# Altium footprint library con-neutrik_ag.PCBLIB: 78 footprints (part 5 of 5)
Each footprint in its own frame and in the unit in brackets; x right, y up, seen from the top. Pads: shape width x height; smd on the part's side, far side on the other; paste and mask are expansions set on the pad; w line width, h text height; cw(c..) or ccw(c..) is an arc to the next point about the centre after c.
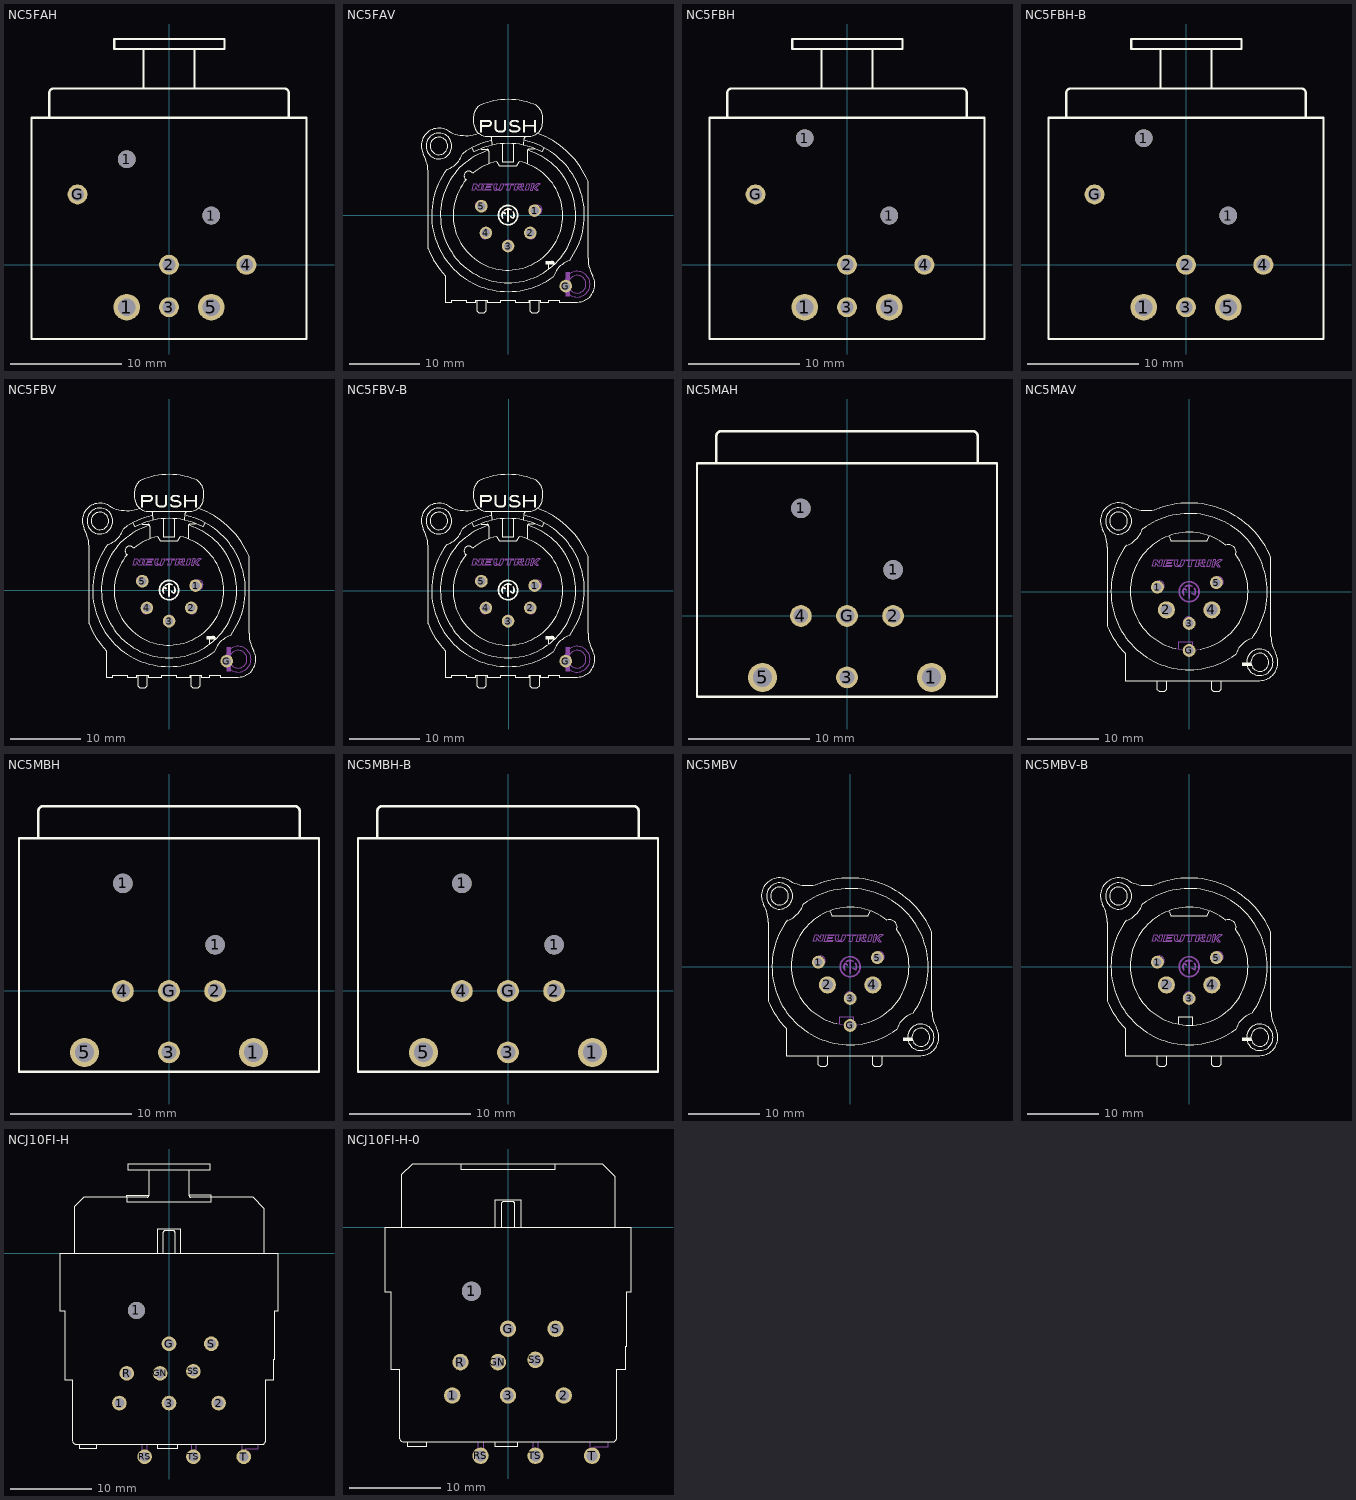
[diagram p4: the footprints below, top view; thin cyan lines are the x and y axes]

## NC5FAH [mil]
pads (8):
  round 94.48 hole 62.99: 1(-150,-150.2) 5(150,-150.2)
  round 62.99 hole 62.99: 1(-150,375) 1(150,175)
  round 70.86 hole 47.24: 2(0,0) 3(0,-150.2) 4(274.8,0) G(-324.8,250.2)
Top Overlay:
  lines w8: -425.2,526.06 -425.2,610.7 cw(c-409.45,610.7) -409.45,626.45 409.45,626.45 cw(c409.45,610.7) 425.2,610.7 425.2,526.06 ; -90.55,630.84 -90.55,766.67 ; 88.58,766.67 -90.55,766.67 ; 90.55,630.84 90.55,766.67 196.85,766.67 196.85,802.1 -194.88,802.1 -194.88,766.67 -90.55,766.67 ; -488.19,-263.31 -488.19,522.12 488.19,522.12 488.19,-263.31 -488.19,-263.31

## NC5FAV [mil]
pads (6):
  round 70.86 hole 47.24: 1(150,25) 2(125,-100) 3(0,-175) 4(-125,-100) 5(-150,50) G(325,-400)
Top Overlay:
  circle w4: c-389.4,389.33 r72.76
  circle w4: c-389.4,389.64 r49.03
  circle w9.84: c0,0 r54.33
  rectangle: 210.63,-277.56 259.84,-257.87
  rectangle: -157.48,465.35 -146.46,536.22
  rectangle: -75.98,489.76 -65.35,536.22
  rectangle: -22.05,489.76 -11.42,536.22
  rectangle: 84.25,465.75 94.88,536.22
  rectangle: 145.67,465.35 156.3,536.22
  rectangle: 93.31,498.82 147.24,507.48
  lines w4: -202.76,375.98 -190.94,356.3 cw(c0,-4.91) 190.94,356.3 200.79,375.98 ; -177.17,-480.32 -177.17,-537.4 -165.35,-549.21 -133.86,-549.21 -122.05,-537.4 -122.05,-480.32 ; -167.32,460.63 cw(c-237.48,645.5) -336.61,474.41 ccw(c-389,389.21) -476.38,340.55 cw(c-647.99,243.36) -450.79,246.06 -450.79,-190.94 ccw(c30.16,18.3) -352.36,-340.55 -352.36,-490.16 -316.93,-490.16 -316.93,-478.35 -234.25,-478.35 -234.25,-490.16 -181.1,-490.16 -181.1,-478.35 -118.11,-478.35 -118.11,-490.16 -41.34,-490.16 -41.34,-478.35 41.34,-478.35 41.34,-490.16 118.11,-490.16 118.11,-478.35 181.1,-478.35 181.1,-490.16 230.32,-490.16 230.32,-478.35 289.37,-478.35 289.37,-490.16 389.76,-490.16 ccw(c388.74,-389.69) 476.38,-340.55 cw(c647.74,-243.47) 450.79,-244.09 450.79,190.94 ccw(c-1.1,-2.35) 169.29,458.66 ; -149.61,370.08 -118.11,370.08 cw(c-118.11,360.24) -108.27,360.24 -108.27,289.37 ; -112.2,364.17 ccw(c0,0.01) 112.2,364.17 ; -96.46,419.29 ccw(c-3.54,4.9) -255.91,346.46 cw(c-390.03,390.03) -346.46,255.91 ccw(c-0.16,-0.16) 255.91,-346.46 cw(c390.39,-390.39) 346.46,-255.91 ccw(c-0.36,-0.44) 96.46,419.29 ; -96.46,440.94 cw(c-103.34,432.08) -92.52,435.04 -88.58,393.7 ; -33.46,401.57 -33.46,301.18 -29.53,299.21 29.53,299.21 33.46,301.18 33.46,401.57 ; 88.58,393.7 92.52,433.07 cw(c102.36,433.06) 96.46,440.94 ; 108.27,289.37 108.27,360.24 cw(c118.11,360.24) 118.11,370.08 147.64,370.08 ; 122.05,-480.32 122.05,-537.4 133.86,-549.21 165.35,-549.21 177.17,-537.4 177.17,-480.32 ; 230.32,-303.15 230.32,-275.59 ; 244.09,-261.81 250,-255.91 263.78,-271.65 ; -236.22,198.82 ccw(c-0.79,-0.89) 62.99,301.18 49.21,277.56 -49.21,277.56 -62.99,301.18 ccw(c-4.2,3.77) -198.82,236.22 ccw(c-221.2,221.2) -236.22,198.82 ; -194.88,519.69 -194.88,553.15 cw(c-113.04,550.06) -155.51,620.08 cw(c-0.79,255.72) 0,651.57 cw(c1.88,262.61) 145.67,624.02 cw(c115.13,548.22) 163.39,614.17 cw(c112.41,548.06) 194.88,561.02 194.88,519.69 cw(c114.49,523.3) 118.11,442.91 -120.08,442.91 cw(c-114.29,523.38) -194.88,519.69
  lines w9.84: -29.92,-17.32 cw(c2.27,0) -29.92,17.32 -15.75,9.06 ; -19.69,27.95 cw(c-0.07,1.32) 16.54,29.92 ; 0,-34.25 0,30.71 ; 14.57,-8.27 29.53,-16.93 ccw(c0.2,0.2) 29.53,17.32
  lines w10.63: -151.18,530.71 -110.63,530.71 cw(c-110.48,515.89) -95.67,516.54 cw(c-111,517.31) -110.63,501.97 -148.43,501.97 ; -70.87,493.31 -70.87,490.94 ccw(c-50.85,490.87) -51.57,470.87 -34.65,470.87 ccw(c-34.42,488.36) -16.93,488.19 -16.93,490.16 ; 10.63,479.92 ccw(c26.8,488.29) 14.57,474.8 ccw(c26.09,491.37) 24.41,471.26 43.31,470.87 ccw(c42.93,497.56) 55.51,474.02 ccw(c46.64,491.62) 63.78,481.89 64.57,488.19 ccw(c52.51,484.99) 58.27,496.06 ccw(c42.18,475.44) 43.31,501.57 33.46,501.57 cw(c35.29,530.43) 22.05,504.72 cw(c26.59,517.33) 13.78,513.39 cw(c19.88,515.75) 13.78,518.11 cw(c24.59,517.56) 18.9,526.77 cw(c34.13,505.34) 31.5,531.5 41.34,531.5 cw(c42,511.09) 51.57,529.13 cw(c43.87,511.05) 57.09,525.59
Mechanical 16:
  circle w4: c-159.67,51.91 r25.48
  circle w4: c166.15,29.93 r25.27
  circle w4: c129.77,-107.77 r25.52
  circle w4: c0,-167.91 r25.48
  circle w4: c-129.78,-107.73 r25.47
  circle w4: c389.32,-389.34 r72.33
  circle w4: c389.32,-389.34 r49.62
  rectangle: -183.67,42.04 -135.68,61.78
  rectangle: 142.15,20.06 190.04,39.7
  rectangle: 104.74,-117.69 153.43,-97.96
  rectangle: -24.02,-177.78 24.65,-158.13
  rectangle: -153.98,-117.59 -106.17,-97.87
  rectangle: 324.56,-458.27 348.04,-320.41
  lines w2.5: 57.09,172.24 54.13,160.43 67.91,160.43 ccw(c68.07,168.14) 74.8,164.37 75.79,167.32 ccw(c72.34,168.79) 73.82,172.24 58.07,172.24 ; -202.76,138.98 -192.91,175.98 -178.74,175.98 -164.57,155.51 -159.06,175.98 -145.28,175.98 -155.12,138.98 -169.29,138.98 -183.07,159.06 -188.98,138.98 -202.76,138.98 ; -142.72,138.78 -132.87,176.18 -88.58,176.18 -90.55,169.29 -121.06,169.29 -123.03,161.42 -99.41,161.42 -101.38,154.53 -125,154.53 -127.95,145.67 -96.46,145.67 -98.43,138.78 -142.72,138.78 ; -81.69,155.51 ccw(c-66.83,153.75) -66.93,138.78 -48.23,138.78 ccw(c-50.39,158.44) -31.5,152.56 -24.61,176.18 -39.37,176.18 -46.26,151.57 cw(c-53.27,154.1) -53.15,146.65 -62.01,146.65 cw(c-61.38,153.27) -67.91,154.53 -62.01,176.18 -75.79,176.18 -81.69,155.51 ; -14.76,169.29 1.97,169.29 -5.91,138.78 7.87,138.78 15.75,169.29 30.51,169.29 32.48,176.18 -12.8,176.18 -14.76,169.29 ; 34.45,138.78 44.29,176.18 81.69,176.18 cw(c82.72,169.41) 89.57,169.29 cw(c80.22,169.13) 83.66,160.43 72.83,155.51 86.61,138.78 68.9,138.78 53.15,156.5 48.23,138.78 34.45,138.78 ; 97.44,138.78 111.22,138.78 121.06,176.18 107.28,176.18 97.44,138.78 ; 124.02,138.78 133.86,176.18 147.64,176.18 143.7,160.43 164.37,176.18 181.1,176.18 155.51,156.5 171.26,138.78 158.46,138.78 142.72,156.5 137.8,138.78 124.02,138.78

## NC5FBH [mil]
pads (8):
  round 94.48 hole 62.99: 1(-150,-150.2) 5(150,-150.2)
  round 62.99 hole 62.99: 1(-150,450) 1(150,175)
  round 70.86 hole 47.24: 2(0,0) 3(0,-150.2) 4(274.8,0) G(-324.8,250.2)
Top Overlay:
  lines w8: -425.2,526.06 -425.2,610.7 cw(c-409.45,610.7) -409.45,626.45 409.45,626.45 cw(c409.45,610.7) 425.2,610.7 425.2,526.06 ; -90.55,630.84 -90.55,766.67 ; 88.58,766.67 -90.55,766.67 ; 90.55,630.84 90.55,766.67 196.85,766.67 196.85,802.1 -194.88,802.1 -194.88,766.67 -90.55,766.67 ; -488.19,-263.31 -488.19,522.12 488.19,522.12 488.19,-263.31 -488.19,-263.31

## NC5FBH-B [mil]
pads (8):
  round 94.48 hole 62.99: 1(-150,-150.2) 5(150,-150.2)
  round 62.99 hole 62.99: 1(-150,450) 1(150,175)
  round 70.86 hole 47.24: 2(0,0) 3(0,-150.2) 4(274.8,0) G(-324.8,250.2)
Top Overlay:
  lines w8: -425.2,526.06 -425.2,610.7 cw(c-409.45,610.7) -409.45,626.45 409.45,626.45 cw(c409.45,610.7) 425.2,610.7 425.2,526.06 ; -90.55,630.84 -90.55,766.67 ; 88.58,766.67 -90.55,766.67 ; 90.55,630.84 90.55,766.67 196.85,766.67 196.85,802.1 -194.88,802.1 -194.88,766.67 -90.55,766.67 ; -488.19,-263.31 -488.19,522.12 488.19,522.12 488.19,-263.31 -488.19,-263.31

## NC5FBV [mil]
pads (6):
  round 70.86 hole 47.24: 1(150,25) 2(125,-100) 3(0,-175) 4(-125,-100) 5(-150,50) G(325,-400)
Top Overlay:
  circle w4: c-389.4,389.33 r72.76
  circle w4: c-389.4,389.64 r49.03
  circle w9.84: c0,0 r54.33
  rectangle: 210.63,-277.56 259.84,-257.87
  rectangle: -157.48,465.35 -146.46,536.22
  rectangle: -75.98,489.76 -65.35,536.22
  rectangle: -22.05,489.76 -11.42,536.22
  rectangle: 84.25,465.75 94.88,536.22
  rectangle: 145.67,465.35 156.3,536.22
  rectangle: 93.31,498.82 147.24,507.48
  lines w4: -202.76,375.98 -190.94,356.3 cw(c0,-4.91) 190.94,356.3 200.79,375.98 ; -177.17,-480.32 -177.17,-537.4 -165.35,-549.21 -133.86,-549.21 -122.05,-537.4 -122.05,-480.32 ; -167.32,460.63 cw(c-237.48,645.51) -336.61,474.41 ccw(c-389,389.21) -476.38,340.55 cw(c-648,243.36) -450.79,246.06 -450.79,-190.94 ccw(c-21.97,-16) -352.36,-340.55 -352.36,-490.16 -316.93,-490.16 -316.93,-478.35 -234.25,-478.35 -234.25,-490.16 -181.1,-490.16 -181.1,-478.35 -118.11,-478.35 -118.11,-490.16 -41.34,-490.16 -41.34,-478.35 41.34,-478.35 41.34,-490.16 118.11,-490.16 118.11,-478.35 181.1,-478.35 181.1,-490.16 230.32,-490.16 230.32,-478.35 289.37,-478.35 289.37,-490.16 389.76,-490.16 ccw(c388.74,-389.69) 476.38,-340.55 cw(c647.74,-243.47) 450.79,-244.09 450.79,190.94 ccw(c-1.09,-2.35) 169.29,458.66 ; -149.61,370.08 -118.11,370.08 cw(c-118.11,360.24) -108.27,360.24 -108.27,289.37 ; -112.2,364.17 ccw(c0,0.01) 112.2,364.17 ; -96.46,419.29 ccw(c-3.54,4.9) -255.91,346.46 cw(c-390.03,390.03) -346.46,255.91 ccw(c-0.16,-0.16) 255.91,-346.46 cw(c390.39,-390.39) 346.46,-255.91 ccw(c-0.36,-0.44) 96.46,419.29 ; -96.46,440.94 cw(c-103.34,432.08) -92.52,435.04 -88.58,393.7 ; -33.46,401.57 -33.46,301.18 -29.53,299.21 29.53,299.21 33.46,301.18 33.46,401.57 ; 88.58,393.7 92.52,433.07 cw(c102.36,433.06) 96.46,440.94 ; 108.27,289.37 108.27,360.24 cw(c118.11,360.24) 118.11,370.08 147.64,370.08 ; 122.05,-480.32 122.05,-537.4 133.86,-549.21 165.35,-549.21 177.17,-537.4 177.17,-480.32 ; 230.32,-303.15 230.32,-275.59 ; 244.09,-261.81 250,-255.91 263.78,-271.65 ; -236.22,198.82 ccw(c-0.79,-0.88) 62.99,301.18 49.21,277.56 -49.21,277.56 -62.99,301.18 ccw(c-4.2,3.77) -198.82,236.22 ccw(c-221.2,221.2) -236.22,198.82 ; -194.88,519.69 -194.88,553.15 cw(c-113.04,550.06) -155.51,620.08 cw(c-0.79,255.72) 0,651.57 cw(c1.88,262.61) 145.67,624.02 cw(c115.13,548.22) 163.39,614.17 cw(c112.41,548.06) 194.88,561.02 194.88,519.69 cw(c114.49,523.3) 118.11,442.91 -120.08,442.91 cw(c-114.29,523.37) -194.88,519.69
  lines w9.84: -29.92,-17.32 cw(c2.27,0) -29.92,17.32 -15.75,9.06 ; -19.69,27.95 cw(c-0.07,1.33) 16.54,29.92 ; 0,-34.25 0,30.71 ; 14.57,-8.27 29.53,-16.93 ccw(c0.2,0.2) 29.53,17.32
  lines w10.63: -151.18,530.71 -110.63,530.71 cw(c-110.47,515.89) -95.67,516.54 cw(c-110.99,517.31) -110.63,501.97 -148.43,501.97 ; -70.87,493.31 -70.87,490.94 ccw(c-50.86,490.87) -51.57,470.87 -34.65,470.87 ccw(c-34.42,488.36) -16.93,488.19 -16.93,490.16 ; 10.63,479.92 ccw(c26.8,488.29) 14.57,474.8 ccw(c26.09,491.36) 24.41,471.26 43.31,470.87 ccw(c42.93,497.56) 55.51,474.02 ccw(c46.64,491.62) 63.78,481.89 64.57,488.19 ccw(c52.51,484.99) 58.27,496.06 ccw(c42.18,475.45) 43.31,501.57 33.46,501.57 cw(c35.29,530.43) 22.05,504.72 cw(c26.59,517.33) 13.78,513.39 cw(c19.88,515.75) 13.78,518.11 cw(c24.59,517.56) 18.9,526.77 cw(c34.13,505.34) 31.5,531.5 41.34,531.5 cw(c42,511.08) 51.57,529.13 cw(c43.87,511.05) 57.09,525.59
Mechanical 16:
  circle w4: c-159.67,51.91 r25.48
  circle w4: c166.15,29.93 r25.27
  circle w4: c129.77,-107.77 r25.52
  circle w4: c0,-167.91 r25.48
  circle w4: c-129.78,-107.73 r25.47
  circle w4: c389.32,-389.34 r72.33
  circle w4: c389.32,-389.34 r49.62
  rectangle: -183.67,42.04 -135.68,61.78
  rectangle: 142.15,20.06 190.04,39.7
  rectangle: 104.74,-117.69 153.43,-97.96
  rectangle: -24.02,-177.78 24.65,-158.13
  rectangle: -153.98,-117.59 -106.17,-97.87
  rectangle: 324.56,-458.27 348.04,-320.41
  lines w2.5: 57.09,172.24 54.13,160.43 67.91,160.43 ccw(c68.07,168.14) 74.8,164.37 75.79,167.32 ccw(c72.34,168.79) 73.82,172.24 58.07,172.24 ; -202.76,138.98 -192.91,175.98 -178.74,175.98 -164.57,155.51 -159.06,175.98 -145.28,175.98 -155.12,138.98 -169.29,138.98 -183.07,159.06 -188.98,138.98 -202.76,138.98 ; -142.72,138.78 -132.87,176.18 -88.58,176.18 -90.55,169.29 -121.06,169.29 -123.03,161.42 -99.41,161.42 -101.38,154.53 -125,154.53 -127.95,145.67 -96.46,145.67 -98.43,138.78 -142.72,138.78 ; -81.69,155.51 ccw(c-66.83,153.75) -66.93,138.78 -48.23,138.78 ccw(c-50.39,158.44) -31.5,152.56 -24.61,176.18 -39.37,176.18 -46.26,151.57 cw(c-53.27,154.1) -53.15,146.65 -62.01,146.65 cw(c-61.38,153.27) -67.91,154.53 -62.01,176.18 -75.79,176.18 -81.69,155.51 ; -14.76,169.29 1.97,169.29 -5.91,138.78 7.87,138.78 15.75,169.29 30.51,169.29 32.48,176.18 -12.8,176.18 -14.76,169.29 ; 34.45,138.78 44.29,176.18 81.69,176.18 cw(c82.72,169.41) 89.57,169.29 cw(c80.22,169.13) 83.66,160.43 72.83,155.51 86.61,138.78 68.9,138.78 53.15,156.5 48.23,138.78 34.45,138.78 ; 97.44,138.78 111.22,138.78 121.06,176.18 107.28,176.18 97.44,138.78 ; 124.02,138.78 133.86,176.18 147.64,176.18 143.7,160.43 164.37,176.18 181.1,176.18 155.51,156.5 171.26,138.78 158.46,138.78 142.72,156.5 137.8,138.78 124.02,138.78

## NC5FBV-B [mil]
pads (6):
  round 70.86 hole 47.24: 1(146.06,28.94) 2(121.06,-96.06) 3(-3.94,-171.06) 4(-128.94,-96.06) 5(-153.94,53.94) G(321.06,-396.06)
Top Overlay:
  circle w4: c-393.34,393.26 r72.76
  circle w4: c-393.34,393.58 r49.03
  circle w9.84: c-3.94,3.94 r54.33
  rectangle: 206.69,-273.62 255.91,-253.94
  rectangle: -161.42,469.29 -150.39,540.16
  rectangle: -79.92,493.7 -69.29,540.16
  rectangle: -25.98,493.7 -15.35,540.16
  rectangle: 80.32,469.69 90.94,540.16
  rectangle: 141.73,469.29 152.36,540.16
  rectangle: 89.37,502.76 143.31,511.42
  lines w4: -206.69,379.92 -194.88,360.24 cw(c-3.94,-0.98) 187.01,360.24 196.85,379.92 ; -181.1,-476.38 -181.1,-533.46 -169.29,-545.28 -137.8,-545.28 -125.98,-533.46 -125.98,-476.38 ; -171.26,464.57 cw(c-241.42,649.45) -340.55,478.35 ccw(c-392.94,393.15) -480.32,344.49 cw(c-651.94,247.28) -454.72,250 -454.72,-187.01 ccw(c-25.93,-12.09) -356.3,-336.61 -356.3,-486.22 -320.87,-486.22 -320.87,-474.41 -238.19,-474.41 -238.19,-486.22 -185.04,-486.22 -185.04,-474.41 -122.05,-474.41 -122.05,-486.22 -45.28,-486.22 -45.28,-474.41 37.4,-474.41 37.4,-486.22 114.17,-486.22 114.17,-474.41 177.17,-474.41 177.17,-486.22 226.38,-486.22 226.38,-474.41 285.43,-474.41 285.43,-486.22 385.83,-486.22 ccw(c384.81,-385.75) 472.44,-336.61 cw(c643.78,-239.53) 446.85,-240.16 446.85,194.88 ccw(c-5.03,1.6) 165.35,462.6 ; -153.54,374.02 -122.05,374.02 cw(c-122.05,364.17) -112.2,364.17 -112.2,293.31 ; -116.14,368.11 ccw(c-3.94,3.94) 108.27,368.11 ; -100.39,423.23 ccw(c-7.45,8.84) -259.84,350.39 cw(c-393.96,393.96) -350.39,259.84 ccw(c-4.09,3.78) 251.97,-342.52 cw(c386.45,-386.45) 342.52,-251.97 ccw(c-4.3,3.5) 92.52,423.23 ; -100.39,444.88 cw(c-107.28,436.04) -96.46,438.98 -92.52,397.64 ; -37.4,405.51 -37.4,305.12 -33.46,303.15 25.59,303.15 29.53,305.12 29.53,405.51 ; 84.65,397.64 88.58,437.01 cw(c98.42,437) 92.52,444.88 ; 104.33,293.31 104.33,364.17 cw(c114.17,364.18) 114.17,374.02 143.7,374.02 ; 118.11,-476.38 118.11,-533.46 129.92,-545.28 161.42,-545.28 173.23,-533.46 173.23,-476.38 ; 226.38,-299.21 226.38,-271.65 ; 240.16,-257.87 246.06,-251.97 259.84,-267.72 ; -240.16,202.76 ccw(c-4.72,3.05) 59.06,305.12 45.28,281.5 -53.15,281.5 -66.93,305.12 ccw(c-8.14,7.71) -202.76,240.16 ccw(c-225.14,225.14) -240.16,202.76 ; -198.82,523.62 -198.82,557.09 cw(c-116.98,554) -159.45,624.02 cw(c-4.73,259.66) -3.94,655.51 cw(c-2.09,266.55) 141.73,627.95 cw(c111.23,552.15) 159.45,618.11 cw(c108.47,552) 190.94,564.96 190.94,523.62 cw(c110.56,527.23) 114.17,446.85 -124.02,446.85 cw(c-118.24,527.31) -198.82,523.62
  lines w9.84: -33.86,-13.39 cw(c-1.66,3.94) -33.86,21.26 -19.69,12.99 ; -23.62,31.89 cw(c-4.01,5.28) 12.6,33.86 ; -3.94,-30.32 -3.94,34.65 ; 10.63,-4.33 25.59,-12.99 ccw(c-3.74,4.13) 25.59,21.26
  lines w10.63: -155.12,534.65 -114.57,534.65 cw(c-114.42,519.83) -99.61,520.47 cw(c-114.93,521.24) -114.57,505.91 -152.36,505.91 ; -74.8,497.24 -74.8,494.88 ccw(c-54.79,494.8) -55.51,474.8 -38.58,474.8 ccw(c-38.36,492.28) -20.87,492.13 -20.87,494.09 ; 6.69,483.86 ccw(c22.86,492.23) 10.63,478.74 ccw(c22.15,495.3) 20.47,475.2 39.37,474.8 ccw(c38.99,501.49) 51.57,477.95 ccw(c42.69,495.55) 59.84,485.83 60.63,492.13 ccw(c48.57,488.93) 54.33,500 ccw(c38.24,479.39) 39.37,505.51 29.53,505.51 cw(c31.35,534.39) 18.11,508.66 cw(c22.64,521.26) 9.84,517.32 cw(c15.95,519.68) 9.84,522.05 cw(c20.65,521.5) 14.96,530.71 cw(c30.17,509.28) 27.56,535.43 37.4,535.43 cw(c38.08,515) 47.64,533.07 cw(c39.94,515.02) 53.15,529.53
Mechanical 16:
  circle w4: c-163.61,55.84 r25.48
  circle w4: c162.21,33.87 r25.27
  circle w4: c125.83,-103.83 r25.52
  circle w4: c-3.94,-163.97 r25.48
  circle w4: c-133.72,-103.79 r25.47
  circle w4: c385.38,-385.4 r72.33
  circle w4: c385.38,-385.4 r49.62
  rectangle: -187.6,45.97 -139.61,65.72
  rectangle: 138.22,24 186.1,43.64
  rectangle: 100.8,-113.75 149.49,-94.02
  rectangle: -27.96,-173.85 20.71,-154.2
  rectangle: -157.92,-113.65 -110.11,-93.94
  rectangle: 320.62,-454.33 344.1,-316.47
  lines w2.5: 53.15,176.18 50.2,164.37 63.98,164.37 ccw(c64.14,172.08) 70.87,168.31 71.85,171.26 ccw(c68.41,172.74) 69.88,176.18 54.13,176.18 ; -206.69,142.91 -196.85,179.92 -182.68,179.92 -168.5,159.45 -162.99,179.92 -149.21,179.92 -159.06,142.91 -173.23,142.91 -187.01,162.99 -192.91,142.91 -206.69,142.91 ; -146.65,142.72 -136.81,180.12 -92.52,180.12 -94.49,173.23 -125,173.23 -126.97,165.35 -103.35,165.35 -105.32,158.46 -128.94,158.46 -131.89,149.61 -100.39,149.61 -102.36,142.72 -146.65,142.72 ; -85.63,159.45 ccw(c-70.77,157.69) -70.87,142.72 -52.17,142.72 ccw(c-54.32,162.39) -35.43,156.5 -28.54,180.12 -43.31,180.12 -50.2,155.51 cw(c-57.21,158.04) -57.09,150.59 -65.94,150.59 cw(c-65.32,157.21) -71.85,158.46 -65.94,180.12 -79.72,180.12 -85.63,159.45 ; -18.7,173.23 -1.97,173.23 -9.84,142.72 3.94,142.72 11.81,173.23 26.57,173.23 28.54,180.12 -16.73,180.12 -18.7,173.23 ; 30.51,142.72 40.35,180.12 77.76,180.12 cw(c78.78,173.35) 85.63,173.23 cw(c76.28,173.07) 79.72,164.37 68.9,159.45 82.68,142.72 64.96,142.72 49.21,160.43 44.29,142.72 30.51,142.72 ; 93.5,142.72 107.28,142.72 117.13,180.12 103.35,180.12 93.5,142.72 ; 120.08,142.72 129.92,180.12 143.7,180.12 139.76,164.37 160.43,180.12 177.17,180.12 151.57,160.43 167.32,142.72 154.53,142.72 138.78,160.43 133.86,142.72 120.08,142.72

## NC5MAH [mil]
pads (8):
  round 62.99 hole 62.99: 1(-150,350) 1(150,150)
  round 94.48 hole 62.99: 1(274.8,-200) 5(-274.8,-200)
  round 70.86 hole 47.24: 2(150,0) 3(0,-200) 4(-150,0) G(0,0)
Top Overlay:
  lines w8: -425.2,500.79 -425.2,585.43 cw(c-409.45,585.43) -409.45,601.18 409.45,601.18 cw(c409.45,585.43) 425.2,585.43 425.2,500.79 ; -488.19,-262.99 -488.19,496.85 488.19,496.85 488.19,-262.99 -488.19,-262.99

## NC5MAV [mil]
pads (6):
  round 70.86 hole 47.24: 1(-175,25) 3(0,-175) 5(150,50) G(0,-323.82)
  round 94.48 hole 62.99: 2(-125,-100) 4(125,-100)
Top Overlay:
  circle w4: c-388.94,389.5 r72.04
  circle w4: c-388.94,389.5 r49.17
  circle w4: c389.55,-389.14 r72.67
  circle w4: c389.55,-389.14 r49.43
  rectangle: 291.34,-409.45 342.52,-389.76
  lines w4: -177.17,-492.13 -177.17,-537.4 -165.35,-549.21 -133.86,-549.21 -122.05,-537.4 -122.05,-492.13 ; -110.24,303.15 -102.36,279.53 100.39,279.53 110.24,305.12 ; -74.8,-312.99 cw(c0.02,2.67) 202.76,255.91 cw(c217.62,217.62) 255.91,202.76 cw(c-0.88,2.67) 61.02,-316.93 ; 122.05,-492.13 122.05,-537.4 133.86,-549.21 165.35,-549.21 177.17,-537.4 177.17,-492.13 ; -478.35,344.49 cw(c-388.57,389.17) -332.68,472.44 ccw(c-235.17,650.95) -163.39,460.63 cw(c-0.12,-0.36) 450.79,188.98 450.79,-246.06 ccw(c630.04,-245.71) 474.41,-334.65 cw(c388.3,-388.3) 435.04,-478.35 cw(c385.94,-382.8) 389.76,-490.16 -352.36,-490.16 -352.36,-340.55 cw(c32.7,19.97) -450.79,-190.94 -450.79,246.06 ccw(c-647.33,244.1) -478.35,344.49 ; -346.46,255.91 ccw(c-387.34,385.39) -257.87,344.49 cw(c0.1,-0.19) 346.46,-255.91 ccw(c396.95,-398.09) 255.91,-344.49 cw(c-1.02,0.11) -346.46,255.91
Mechanical 16:
  circle w9.84: c0,0 r55.12
  circle w4: c163.61,55.84 r25.48
  circle w4: c-162.21,33.87 r25.27
  circle w4: c125.83,-103.83 r25.52
  circle w4: c-3.94,-163.97 r25.48
  circle w4: c-133.72,-103.79 r25.47
  region: 187.6,65.72 139.61,65.72 139.61,45.97 187.6,45.97
  region: -138.22,43.64 -186.1,43.64 -186.1,24 -138.22,24
  rectangle: 100.8,-113.75 149.49,-94.02
  rectangle: -27.96,-173.85 20.71,-154.2
  rectangle: -157.92,-113.65 -110.11,-93.94
  lines w2.5: 57.09,172.24 54.13,160.43 67.91,160.43 ccw(c68.07,168.14) 74.8,164.37 75.79,167.32 ccw(c72.34,168.79) 73.82,172.24 58.07,172.24 ; -202.76,138.98 -192.91,175.98 -178.74,175.98 -164.57,155.51 -159.06,175.98 -145.28,175.98 -155.12,138.98 -169.29,138.98 -183.07,159.06 -188.98,138.98 -202.76,138.98 ; -142.72,138.78 -132.87,176.18 -88.58,176.18 -90.55,169.29 -121.06,169.29 -123.03,161.42 -99.41,161.42 -101.38,154.53 -125,154.53 -127.95,145.67 -96.46,145.67 -98.43,138.78 -142.72,138.78 ; -81.69,155.51 ccw(c-66.83,153.75) -66.93,138.78 -48.23,138.78 ccw(c-50.39,158.44) -31.5,152.56 -24.61,176.18 -39.37,176.18 -46.26,151.57 cw(c-53.27,154.1) -53.15,146.65 -62.01,146.65 cw(c-61.38,153.27) -67.91,154.53 -62.01,176.18 -75.79,176.18 -81.69,155.51 ; -14.76,169.29 1.97,169.29 -5.91,138.78 7.87,138.78 15.75,169.29 30.51,169.29 32.48,176.18 -12.8,176.18 -14.76,169.29 ; 34.45,138.78 44.29,176.18 81.69,176.18 cw(c82.72,169.41) 89.57,169.29 cw(c80.22,169.13) 83.66,160.43 72.83,155.51 86.61,138.78 68.9,138.78 53.15,156.5 48.23,138.78 34.45,138.78 ; 97.44,138.78 111.22,138.78 121.06,176.18 107.28,176.18 97.44,138.78 ; 124.02,138.78 133.86,176.18 147.64,176.18 143.7,160.43 164.37,176.18 181.1,176.18 155.51,156.5 171.26,138.78 158.46,138.78 142.72,156.5 137.8,138.78 124.02,138.78
  lines w4: -74.8,-312.99 ccw(c2.37,4.35) 61.02,-316.93 ; -57.09,-314.96 -57.09,-275.59 17.72,-275.59 17.72,-320.87
  lines w9.84: -29.53,-17.72 cw(c0.92,0) -29.53,17.72 -15.35,9.06 ; -19.29,28.74 cw(c0.22,-2.62) 16.93,30.32 ; 0.39,-34.65 0.39,30.71 ; 14.96,-8.27 29.53,-16.93 ccw(c0.01,0.7) 30.32,16.93

## NC5MBH [mil]
pads (8):
  round 62.99 hole 62.99: 1(-150,350) 1(150,150)
  round 94.48 hole 62.99: 1(274.8,-200) 5(-274.8,-200)
  round 70.86 hole 47.24: 2(150,0) 3(0,-200) 4(-150,0) G(0,0)
Top Overlay:
  lines w8: -425.2,500.79 -425.2,585.43 cw(c-409.45,585.43) -409.45,601.18 409.45,601.18 cw(c409.45,585.43) 425.2,585.43 425.2,500.79 ; -488.19,-262.99 -488.19,496.85 488.19,496.85 488.19,-262.99 -488.19,-262.99

## NC5MBH-B [mil]
pads (8):
  round 62.99 hole 62.99: 1(-150,350) 1(150,150)
  round 94.48 hole 62.99: 1(274.8,-200) 5(-274.8,-200)
  round 70.86 hole 47.24: 2(150,0) 3(0,-200) 4(-150,0) G(0,0)
Top Overlay:
  lines w8: -425.2,500.79 -425.2,585.43 cw(c-409.45,585.43) -409.45,601.18 409.45,601.18 cw(c409.45,585.43) 425.2,585.43 425.2,500.79 ; -488.19,-262.99 -488.19,496.85 488.19,496.85 488.19,-262.99 -488.19,-262.99

## NC5MBV [mil]
pads (6):
  round 70.86 hole 47.24: 1(-175,25) 3(0,-175) 5(150,50) G(0,-323.82)
  round 94.48 hole 62.99: 2(-125,-100) 4(125,-100)
Top Overlay:
  circle w4: c-388.94,389.5 r72.04
  circle w4: c-388.94,389.5 r49.17
  circle w4: c389.55,-389.14 r72.67
  circle w4: c389.55,-389.14 r49.43
  rectangle: 291.34,-409.45 342.52,-389.76
  lines w4: -177.17,-492.13 -177.17,-537.4 -165.35,-549.21 -133.86,-549.21 -122.05,-537.4 -122.05,-492.13 ; -110.24,303.15 -102.36,279.53 100.39,279.53 110.24,305.12 ; -74.8,-312.99 cw(c0.02,2.67) 202.76,255.91 cw(c217.62,217.62) 255.91,202.76 cw(c-0.88,2.67) 61.02,-316.93 ; 122.05,-492.13 122.05,-537.4 133.86,-549.21 165.35,-549.21 177.17,-537.4 177.17,-492.13 ; -478.35,344.49 cw(c-388.57,389.17) -332.68,472.44 ccw(c-235.17,650.95) -163.39,460.63 cw(c-0.12,-0.36) 450.79,188.98 450.79,-246.06 ccw(c630.04,-245.71) 474.41,-334.65 cw(c388.3,-388.3) 435.04,-478.35 cw(c385.94,-382.8) 389.76,-490.16 -352.36,-490.16 -352.36,-340.55 cw(c32.7,19.97) -450.79,-190.94 -450.79,246.06 ccw(c-647.33,244.1) -478.35,344.49 ; -346.46,255.91 ccw(c-387.34,385.39) -257.87,344.49 cw(c0.1,-0.19) 346.46,-255.91 ccw(c396.94,-398.09) 255.91,-344.49 cw(c-1.02,0.11) -346.46,255.91
Mechanical 16:
  circle w9.84: c0,0 r55.12
  circle w4: c163.61,55.84 r25.48
  circle w4: c-162.21,33.87 r25.27
  circle w4: c125.83,-103.83 r25.52
  circle w4: c-3.94,-163.97 r25.48
  circle w4: c-133.72,-103.79 r25.47
  region: 187.6,65.72 139.61,65.72 139.61,45.97 187.6,45.97
  region: -138.22,43.64 -186.1,43.64 -186.1,24 -138.22,24
  rectangle: 100.8,-113.75 149.49,-94.02
  rectangle: -27.96,-173.85 20.71,-154.2
  rectangle: -157.92,-113.65 -110.11,-93.94
  lines w2.5: 57.09,172.24 54.13,160.43 67.91,160.43 ccw(c68.07,168.14) 74.8,164.37 75.79,167.32 ccw(c72.34,168.79) 73.82,172.24 58.07,172.24 ; -202.76,138.98 -192.91,175.98 -178.74,175.98 -164.57,155.51 -159.06,175.98 -145.28,175.98 -155.12,138.98 -169.29,138.98 -183.07,159.06 -188.98,138.98 -202.76,138.98 ; -142.72,138.78 -132.87,176.18 -88.58,176.18 -90.55,169.29 -121.06,169.29 -123.03,161.42 -99.41,161.42 -101.38,154.53 -125,154.53 -127.95,145.67 -96.46,145.67 -98.43,138.78 -142.72,138.78 ; -81.69,155.51 ccw(c-66.83,153.75) -66.93,138.78 -48.23,138.78 ccw(c-50.39,158.44) -31.5,152.56 -24.61,176.18 -39.37,176.18 -46.26,151.57 cw(c-53.27,154.1) -53.15,146.65 -62.01,146.65 cw(c-61.38,153.27) -67.91,154.53 -62.01,176.18 -75.79,176.18 -81.69,155.51 ; -14.76,169.29 1.97,169.29 -5.91,138.78 7.87,138.78 15.75,169.29 30.51,169.29 32.48,176.18 -12.8,176.18 -14.76,169.29 ; 34.45,138.78 44.29,176.18 81.69,176.18 cw(c82.72,169.41) 89.57,169.29 cw(c80.22,169.13) 83.66,160.43 72.83,155.51 86.61,138.78 68.9,138.78 53.15,156.5 48.23,138.78 34.45,138.78 ; 97.44,138.78 111.22,138.78 121.06,176.18 107.28,176.18 97.44,138.78 ; 124.02,138.78 133.86,176.18 147.64,176.18 143.7,160.43 164.37,176.18 181.1,176.18 155.51,156.5 171.26,138.78 158.46,138.78 142.72,156.5 137.8,138.78 124.02,138.78
  lines w4: -74.8,-312.99 ccw(c2.37,4.35) 61.02,-316.93 ; -57.09,-314.96 -57.09,-275.59 17.72,-275.59 17.72,-320.87
  lines w9.84: -29.53,-17.72 cw(c0.92,0) -29.53,17.72 -15.35,9.06 ; -19.29,28.74 cw(c0.22,-2.62) 16.93,30.32 ; 0.39,-34.65 0.39,30.71 ; 14.96,-8.27 29.53,-16.93 ccw(c0.01,0.7) 30.32,16.93

## NC5MBV-B [mil]
pads (5):
  round 70.86 hole 47.24: 1(-175,25) 3(0,-175) 5(150,50)
  round 94.48 hole 62.99: 2(-125,-100) 4(125,-100)
Top Overlay:
  circle w4: c-388.94,389.5 r72.04
  circle w4: c-388.94,389.5 r49.17
  circle w4: c389.55,-389.14 r72.67
  circle w4: c389.55,-389.14 r49.43
  rectangle: 291.34,-409.45 342.52,-389.76
  lines w4: -177.17,-492.13 -177.17,-537.4 -165.35,-549.21 -133.86,-549.21 -122.05,-537.4 -122.05,-492.13 ; -110.24,303.15 -102.36,279.53 100.39,279.53 110.24,305.12 ; -57.09,-314.96 -57.09,-275.59 17.72,-275.59 17.72,-320.87 ; 122.05,-492.13 122.05,-537.4 133.86,-549.21 165.35,-549.21 177.17,-537.4 177.17,-492.13 ; -478.35,344.49 cw(c-388.57,389.17) -332.68,472.44 ccw(c-235.17,650.95) -163.39,460.63 cw(c-0.12,-0.36) 450.79,188.98 450.79,-246.06 ccw(c630.04,-245.71) 474.41,-334.65 cw(c388.3,-388.3) 435.04,-478.35 cw(c385.94,-382.8) 389.76,-490.16 -352.36,-490.16 -352.36,-340.55 cw(c32.7,19.97) -450.79,-190.94 -450.79,246.06 ccw(c-647.33,244.1) -478.35,344.49 ; -346.46,255.91 ccw(c-387.34,385.39) -257.87,344.49 cw(c0.1,-0.19) 346.46,-255.91 ccw(c396.94,-398.09) 255.91,-344.49 cw(c-1.02,0.11) -346.46,255.91 ; -74.8,-312.99 ccw(c2.37,4.35) 61.02,-316.93 ccw(c-0.88,2.67) 255.91,202.76 ccw(c217.62,217.62) 202.76,255.91 ccw(c0.02,2.67) -74.8,-312.99
Mechanical 16:
  circle w9.84: c0,0 r55.12
  circle w4: c163.61,55.84 r25.48
  circle w4: c-162.21,33.87 r25.27
  circle w4: c125.83,-103.83 r25.52
  circle w4: c-3.94,-163.97 r25.48
  circle w4: c-133.72,-103.79 r25.47
  region: 187.6,65.72 139.61,65.72 139.61,45.97 187.6,45.97
  region: -138.22,43.64 -186.1,43.64 -186.1,24 -138.22,24
  rectangle: 100.8,-113.75 149.49,-94.02
  rectangle: -27.96,-173.85 20.71,-154.2
  rectangle: -157.92,-113.65 -110.11,-93.94
  lines w2.5: 57.09,172.24 54.13,160.43 67.91,160.43 ccw(c68.07,168.14) 74.8,164.37 75.79,167.32 ccw(c72.34,168.79) 73.82,172.24 58.07,172.24 ; -202.76,138.98 -192.91,175.98 -178.74,175.98 -164.57,155.51 -159.06,175.98 -145.28,175.98 -155.12,138.98 -169.29,138.98 -183.07,159.06 -188.98,138.98 -202.76,138.98 ; -142.72,138.78 -132.87,176.18 -88.58,176.18 -90.55,169.29 -121.06,169.29 -123.03,161.42 -99.41,161.42 -101.38,154.53 -125,154.53 -127.95,145.67 -96.46,145.67 -98.43,138.78 -142.72,138.78 ; -81.69,155.51 ccw(c-66.83,153.75) -66.93,138.78 -48.23,138.78 ccw(c-50.39,158.44) -31.5,152.56 -24.61,176.18 -39.37,176.18 -46.26,151.57 cw(c-53.27,154.1) -53.15,146.65 -62.01,146.65 cw(c-61.38,153.27) -67.91,154.53 -62.01,176.18 -75.79,176.18 -81.69,155.51 ; -14.76,169.29 1.97,169.29 -5.91,138.78 7.87,138.78 15.75,169.29 30.51,169.29 32.48,176.18 -12.8,176.18 -14.76,169.29 ; 34.45,138.78 44.29,176.18 81.69,176.18 cw(c82.72,169.41) 89.57,169.29 cw(c80.22,169.13) 83.66,160.43 72.83,155.51 86.61,138.78 68.9,138.78 53.15,156.5 48.23,138.78 34.45,138.78 ; 97.44,138.78 111.22,138.78 121.06,176.18 107.28,176.18 97.44,138.78 ; 124.02,138.78 133.86,176.18 147.64,176.18 143.7,160.43 164.37,176.18 181.1,176.18 155.51,156.5 171.26,138.78 158.46,138.78 142.72,156.5 137.8,138.78 124.02,138.78
  lines w9.84: -29.53,-17.72 cw(c0.92,0) -29.53,17.72 -15.35,9.06 ; -19.29,28.74 cw(c0.22,-2.62) 16.93,30.32 ; 0.39,-34.65 0.39,30.71 ; 14.96,-8.27 29.53,-16.93 ccw(c0.01,0.7) 30.32,16.93

## NCJ10FI-H [mm]
pads (12):
  round 1.8 hole 1.2: 1(-6.1,-18.4) 2(6.1,-18.4) 3(0,-18.4) G(0,-11.1) GN(-1.1,-14.75) R(-5.2,-14.75) RS(-3,-25) S(5.2,-11.1) SS(3,-14.5) T(9.2,-25) TS(3,-25)
  round 2.1 hole 2.1: 1(-4,-7)
Top Overlay:
  lines w0.102: -11.64,-0.06 11.73,-0.06 ; -10.95,-23.52 -10.95,-24.03 -8.97,-24.03 -8.97,-23.55 ; -5.19,6.9 -5.19,6.36 5.19,6.36 5.19,6.87 ; -2.52,7.17 -5.19,7.17 -5.19,6.93 ; -2.49,10.17 -2.49,7.11 cw(c-2.67,7.11) -2.67,6.93 -5.19,6.93 ; -1.47,-0.03 -1.47,2.97 1.47,2.97 1.47,-0.03 ; -1.41,-23.52 -1.41,-24.03 0.99,-24.03 0.99,-23.55 ; -0.75,0 -0.75,2.49 cw(c-0.42,2.49) -0.42,2.82 0.48,2.82 cw(c0.48,2.55) 0.75,2.55 0.75,0 ; 2.49,10.17 2.49,7.11 ccw(c2.7,7.11) 2.7,6.9 5.19,6.9 ; 2.55,7.17 5.19,7.17 5.19,6.9 ; -5.19,6.93 -10.47,6.93 -11.67,5.73 -11.67,-0.06 -13.47,-0.06 -13.47,-7.05 -12.84,-7.05 -12.84,-15.51 -11.88,-15.51 -11.88,-22.98 ccw(c-11.37,-22.98) -11.37,-23.49 11.43,-23.49 ccw(c11.43,-23.04) 11.88,-23.04 11.88,-15.51 12.87,-15.51 12.87,-12.99 12.99,-12.99 12.99,-7.05 13.47,-7.05 13.47,-0.06 11.73,-0.06 ; 5.19,6.9 10.35,6.9 11.73,5.52 11.73,-0.06 ; -5.01,10.23 5.01,10.23 5.01,11.01 -5.01,11.01 -5.01,10.23
Mechanical 16:
  lines w0.102: -3.27,-23.52 -3.27,-25.41 -2.73,-25.41 -2.73,-23.52 ; 2.79,-23.52 2.79,-25.41 3.27,-25.41 3.27,-23.52 ; 8.94,-23.52 8.94,-25.41 9.93,-25.41 9.93,-24.57 9.45,-24.57 9.45,-24.03 10.95,-24.03 10.95,-23.52

## NCJ10FI-H-0 [mm]
pads (12):
  round 1.8 hole 1.2: 1(-6.1,-18.4) 2(6.1,-18.4) 3(0,-18.4) G(0,-11.1) GN(-1.1,-14.75) R(-5.2,-14.75) RS(-3,-25) S(5.2,-11.1) SS(3,-14.5) T(9.2,-25) TS(3,-25)
  round 2.1 hole 2.1: 1(-4,-7)
Top Overlay:
  lines w0.102: -11.64,-0.06 11.73,-0.06 ; -10.95,-23.52 -10.95,-24.03 -8.97,-24.03 -8.97,-23.55 ; -5.19,6.9 -5.19,6.36 5.19,6.36 5.19,6.87 ; -1.47,-0.03 -1.47,2.97 1.47,2.97 1.47,-0.03 ; -1.41,-23.52 -1.41,-24.03 0.99,-24.03 0.99,-23.55 ; -0.75,0 -0.75,2.49 cw(c-0.42,2.49) -0.42,2.82 0.48,2.82 cw(c0.48,2.55) 0.75,2.55 0.75,0 ; 1.15,6.93 10.35,6.93 11.73,5.55 11.73,-0.06 ; 1.17,6.93 -10.47,6.93 -11.67,5.73 -11.67,-0.06 -13.47,-0.06 -13.47,-7.05 -12.84,-7.05 -12.84,-15.51 -11.88,-15.51 -11.88,-22.98 ccw(c-11.37,-22.98) -11.37,-23.49 11.43,-23.49 ccw(c11.43,-23.04) 11.88,-23.04 11.88,-15.51 12.87,-15.51 12.87,-12.99 12.99,-12.99 12.99,-7.05 13.47,-7.05 13.47,-0.06 11.73,-0.06
Mechanical 16:
  lines w0.102: -3.27,-23.52 -3.27,-25.41 -2.73,-25.41 -2.73,-23.52 ; 2.79,-23.52 2.79,-25.41 3.27,-25.41 3.27,-23.52 ; 8.94,-23.52 8.94,-25.41 9.93,-25.41 9.93,-24.57 9.45,-24.57 9.45,-24.03 10.95,-24.03 10.95,-23.52